# Altium footprint library TXS02612RTWR.PcbLib: 1 footprints
Each footprint in its own frame and in the unit in brackets; x right, y up, seen from the top. Pads: shape width x height; smd on the part's side, far side on the other; paste and mask are expansions set on the pad; w line width, h text height; cw(c..) or ccw(c..) is an arc to the next point about the centre after c.
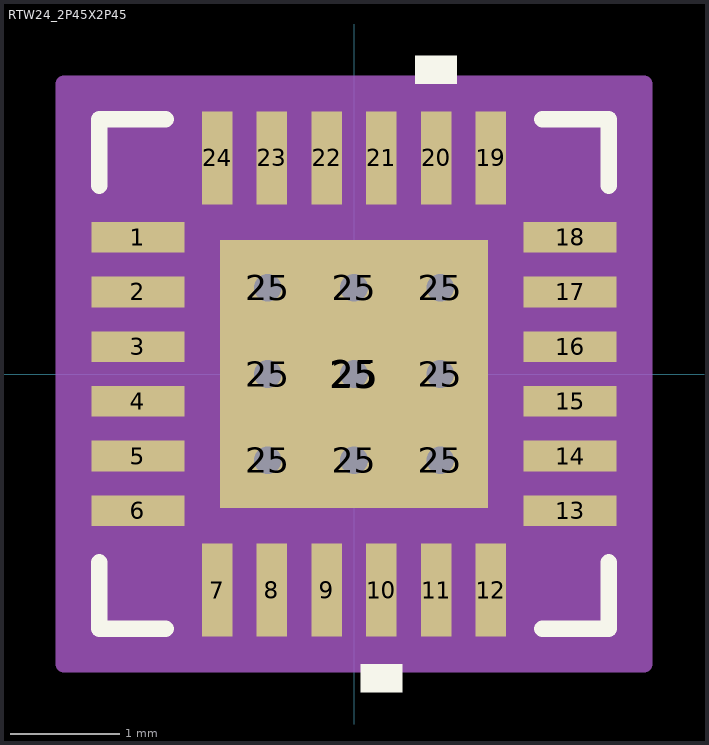
[diagram p0: the footprint, top view; thin cyan lines are the x and y axes]

## RTW24_2P45X2P45 [mm]
pads (34):
  rect 0.85x0.28 smd paste-0.14 mask-0.419: 1(-1.975,1.25) 2(-1.975,0.75) 3(-1.975,0.25) 4(-1.975,-0.25) 5(-1.975,-0.75) 6(-1.975,-1.25) 13(1.975,-1.25) 14(1.975,-0.75) 15(1.975,-0.25) 16(1.975,0.25) 17(1.975,0.75) 18(1.975,1.25)
  rect 0.28x0.85 smd paste-0.14 mask-0.419: 7(-1.25,-1.975) 8(-0.75,-1.975) 9(-0.25,-1.975) 10(0.25,-1.975) 11(0.75,-1.975) 12(1.25,-1.975) 19(1.25,1.975) 20(0.75,1.975) 21(0.25,1.975) 22(-0.25,1.975) 23(-0.75,1.975) 24(-1.25,1.975)
  round 0.508 / inner round 1.524 / far side round 0.508 hole 0.254 paste-0.254 mask-0.254: 25(-0.787,-0.787) 25(-0.787,0) 25(-0.787,0.787) 25(0,-0.787) 25(0,0) 25(0,0.787) 25(0.787,-0.787) 25(0.787,0) 25(0.787,0.787)
  rect 2.45x2.45 smd paste-1.212 mask-1.206: 25(0,0)
Top Overlay:
  region: 0.441,-2.654 0.06,-2.654 0.06,-2.908 0.441,-2.908
  region: 0.941,2.654 0.56,2.654 0.56,2.908 0.941,2.908
  lines w0.152: -2.329,-1.723 -2.329,-2.329 -1.723,-2.329 ; -2.329,1.723 -2.329,2.329 -1.723,2.329 ; 1.723,-2.329 2.329,-2.329 2.329,-1.723 ; 1.723,2.329 2.329,2.329 2.329,1.723
Top Paste:
  drawing of 40 lines, arcs and shapes, not listed
Top Solder:
  region: -1.48,1.46 -2.47,1.46 -2.47,1.04 -1.48,1.04
  region: -1.48,0.96 -2.47,0.96 -2.47,0.54 -1.48,0.54
  region: -1.48,0.46 -2.47,0.46 -2.47,0.04 -1.48,0.04
  region: -1.48,-0.04 -2.47,-0.04 -2.47,-0.46 -1.48,-0.46
  region: -1.48,-0.54 -2.47,-0.54 -2.47,-0.96 -1.48,-0.96
  region: -1.48,-1.04 -2.47,-1.04 -2.47,-1.46 -1.48,-1.46
  region: -1.04,-1.48 -1.46,-1.48 -1.46,-2.47 -1.04,-2.47
  region: -0.54,-1.48 -0.96,-1.48 -0.96,-2.47 -0.54,-2.47
  region: -0.04,-1.48 -0.46,-1.48 -0.46,-2.47 -0.04,-2.47
  region: 0.46,-1.48 0.04,-1.48 0.04,-2.47 0.46,-2.47
  region: 0.96,-1.48 0.54,-1.48 0.54,-2.47 0.96,-2.47
  region: 1.46,-1.48 1.04,-1.48 1.04,-2.47 1.46,-2.47
  region: 2.47,-1.04 1.48,-1.04 1.48,-1.46 2.47,-1.46
  region: 2.47,-0.54 1.48,-0.54 1.48,-0.96 2.47,-0.96
  region: 2.47,-0.04 1.48,-0.04 1.48,-0.46 2.47,-0.46
  region: 2.47,0.46 1.48,0.46 1.48,0.04 2.47,0.04
  region: 2.47,0.96 1.48,0.96 1.48,0.54 2.47,0.54
  region: 2.47,1.46 1.48,1.46 1.48,1.04 2.47,1.04
  region: 1.46,2.47 1.04,2.47 1.04,1.48 1.46,1.48
  region: 0.96,2.47 0.54,2.47 0.54,1.48 0.96,1.48
  region: 0.46,2.47 0.04,2.47 0.04,1.48 0.46,1.48
  region: -0.04,2.47 -0.46,2.47 -0.46,1.48 -0.04,1.48
  region: -0.54,2.47 -0.96,2.47 -0.96,1.48 -0.54,1.48
  region: -1.04,2.47 -1.46,2.47 -1.46,1.48 -1.04,1.48
  region: -1.289,0.987 -1.289,1.289 1.289,1.289 1.289,0.987
  region: -1.289,0.2 -1.289,0.587 1.289,0.587 1.289,0.2
  region: -1.289,-0.587 -1.289,-0.2 1.289,-0.2 1.289,-0.587
  region: -1.289,-1.289 -1.289,-0.987 1.289,-0.987 1.289,-1.289
  region: -1.289,-1.289 -1.289,1.289 -0.987,1.289 -0.987,-1.289
  region: -0.2,-1.289 -0.2,1.289 -0.587,1.289 -0.587,-1.289
  region: 0.587,-1.289 0.587,1.289 0.2,1.289 0.2,-1.289
  region: 0.987,-1.289 0.987,1.289 1.289,1.289 1.289,-1.289
Mechanical 13:
  lines w0.025: -2.075,0.805 -0.805,2.075 ; -2.075,-2.075 2.075,-2.075 2.075,2.075 -2.075,2.075 -2.075,-2.075 ; -2.075,-1.4 -2.075,-1.1 -2.075,-1.4 ; -2.075,-0.9 -2.075,-0.6 -2.075,-0.9 ; -2.075,-0.4 -2.075,-0.1 -2.075,-0.4 ; -2.075,0.1 -2.075,0.4 -2.075,0.1 ; -2.075,0.6 -2.075,0.9 -2.075,0.6 ; -2.075,1.1 -2.075,1.4 -2.075,1.1 ; -1.4,-2.075 -1.1,-2.075 -1.4,-2.075 ; -1.4,2.075 -1.1,2.075 -1.4,2.075 ; -0.9,-2.075 -0.6,-2.075 -0.9,-2.075 ; -0.9,2.075 -0.6,2.075 -0.9,2.075 ; -0.4,-2.075 -0.1,-2.075 -0.4,-2.075 ; -0.4,2.075 -0.1,2.075 -0.4,2.075 ; 0.1,-2.075 0.4,-2.075 0.1,-2.075 ; 0.1,2.075 0.4,2.075 0.1,2.075 ; 0.6,-2.075 0.9,-2.075 0.6,-2.075 ; 0.6,2.075 0.9,2.075 0.6,2.075 ; 1.1,-2.075 1.4,-2.075 1.1,-2.075 ; 1.1,2.075 1.4,2.075 1.1,2.075 ; 2.075,-1.4 2.075,-1.1 2.075,-1.4 ; 2.075,-0.9 2.075,-0.6 2.075,-0.9 ; 2.075,-0.4 2.075,-0.1 2.075,-0.4 ; 2.075,0.1 2.075,0.4 2.075,0.1 ; 2.075,0.6 2.075,0.9 2.075,0.6 ; 2.075,1.1 2.075,1.4 2.075,1.1
Mechanical 15:
  region: 2.654,-2.654 -2.654,-2.654 -2.654,2.654 2.654,2.654
  lines w0.152: -2.654,-2.654 -2.654,2.654 2.654,2.654 2.654,-2.654 -2.654,-2.654
3D body "RTW24_2P45X2P45.step": height 0.74, standoff 0, extent -2.126,-2.126 2.126,2.126